# EAGLE library part CD74AC161 (library 74ttl-din)
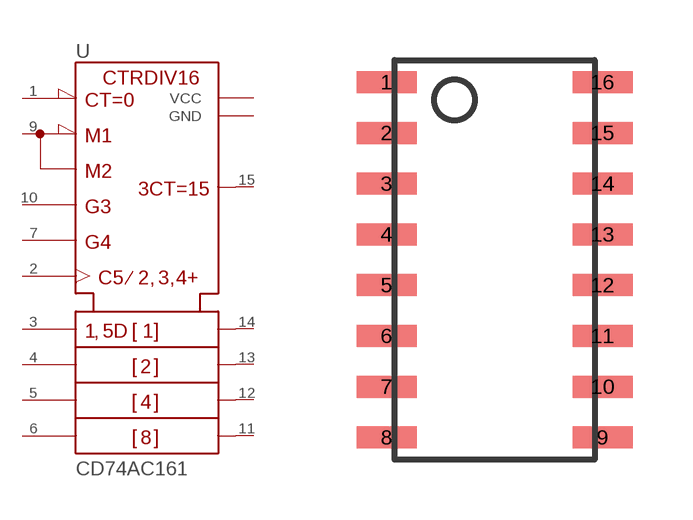
[diagram p163: symbol with the pads of CD74AC161; footprint CD74AC161]

Designator prefix U

## CD74AC161  [CD74AC161]
1  !CLR  in
2  CLK  in
3  A  in
4  B  in
5  C  in
6  D  in
7  ENP  in
8  GND
9  !LOAD  in
10  ENT  in
11  QD  out
12  QC  out
13  QB  out
14  QA  out
15  RCO  out
16  VCC

## Footprint CD74AC161 (pad centres in mm)
smd 1.5 x 0.55: 1 -2.7,4.445; 2 -2.7,3.175; 3 -2.7,1.905; 4 -2.7,0.635; 5 -2.7,-0.635; 6 -2.7,-1.905; 7 -2.7,-3.175; 8 -2.7,-4.445; 9 2.7,-4.445; 10 2.7,-3.175; 11 2.7,-1.905; 12 2.7,-0.635; 13 2.7,0.635; 14 2.7,1.905; 15 2.7,3.175; 16 2.7,4.445